# EAGLE library part CP2102 (library strawberry_linux)
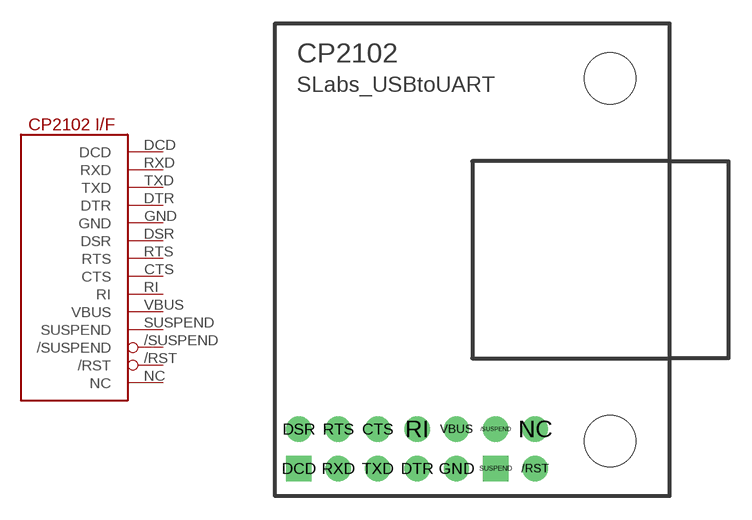
[diagram p0: symbol with the pads of CP2102; footprint CP2102]

Designator prefix USB

## CP2102  [CP2102]
/RST  /RST
/SUSPEND  /SUSPEND  out
CTS  CTS
DCD  DCD
DSR  DSR
DTR  DTR
GND  GND  pwr
NC  NC  nc
RI  RI
RTS  RTS
RXD  RXD  in
SUSPEND  SUSPEND  out
TXD  TXD  out
VBUS  VBUS  pwr

## Footprint CP2102 (pad centres in mm)
drill 1.092 round: /RST 4.064,-13.462; /SUSPEND 1.524,-10.922; CTS -6.096,-10.922; DSR -11.176,-10.922; DTR -3.556,-13.462; GND -1.016,-13.462; NC 4.064,-10.922; RI -3.556,-10.922; RTS -8.636,-10.922; RXD -8.636,-13.462; TXD -6.096,-13.462; VBUS -1.016,-10.922
drill 1.092 square: DCD -11.176,-13.462; SUSPEND 1.524,-13.462
hole 3.302 at 8.89,11.684
hole 3.302 at 8.89,-11.684